# EAGLE library part 61201622021 (library Wire_to_Board_Connectors_rev15d)
WR-BHD 2.54mm Male Box Header With Lever, 16 Pins=>Code : Con_WTB_BHD_2.54_Male_THT_WS_61201622021 <http://katalog.we-online.de/media/thumbs2/eican/thb_Con_WTB_BHD_2.54_Male_THT_WS_6120xx22021_pf2.jpg> Details see: http://katalog.we-online.de/en/em/612_0xx_220_21 Created 2014-06-05, Karrer Zheng 2014 (C) Würth Elektronik
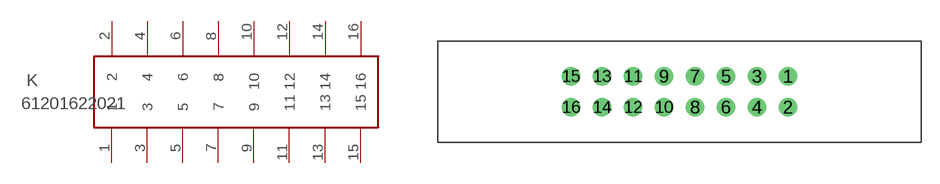
[diagram p141: symbol with the pads of 61201622021; footprint 61201622021]

Designator prefix K

## 61201622021  [61201622021]
1  1  pas
2  2  pas
3  3  pas
4  4  pas
5  5  pas
6  6  pas
7  7  pas
8  8  pas
9  9  pas
10  10  pas
11  11  pas
12  12  pas
13  13  pas
14  14  pas
15  15  pas
16  16  pas

## Footprint 61201622021 (pad centres in mm)
WR-BHD 2.54mm Male Box Header With Lever, 16 Pins
drill 1.02: 1 8.89,1.27; 2 8.89,-1.27; 3 6.35,1.27; 4 6.35,-1.27; 5 3.81,1.27; 6 3.81,-1.27; 7 1.27,1.27; 8 1.27,-1.27; 9 -1.27,1.27; 10 -1.27,-1.27; 11 -3.81,1.27; 12 -3.81,-1.27; 13 -6.35,1.27; 14 -6.35,-1.27; 15 -8.89,1.27; 16 -8.89,-1.27